# EAGLE library part LDBIASCC (library Footprint)
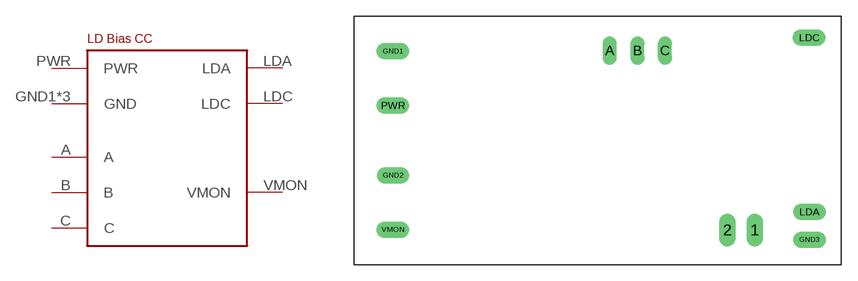
[diagram p0: symbol with the pads of LDBIASDRIVERCC; footprint LDBIASDRIVERCC]

Designator prefix -

## LDBIASCC  [LDBIASDRIVERCC]
A  A
B  B
C  C
GND1  GND
GND2  GND
GND3  GND
LDA  LDA
LDC  LDC
PWR  PWR
VMON  VMON

## Footprint LDBIASDRIVERCC (pad centres in mm)
drill 1 long: 1 36.83,3.175; 2 34.29,3.175; GND1 3.57,19.63; GND2 3.572,8.22; GND3 41.831,2.302; LDA 41.831,4.84; LDC 41.82,20.87; PWR 3.57,14.63; VMON 3.57,3.223
drill 0.8 long: A 23.495,19.685; B 26.035,19.685; C 28.575,19.685